# EAGLE library part UCC27425 (library utesla)
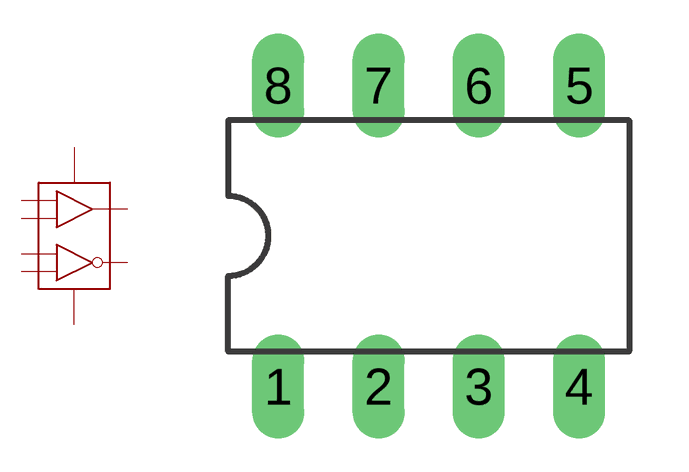
[diagram p1: symbol with the pads of DIL08; footprint DIL08]

Designator prefix -

## UCC27425  [DIL08]
1  ENBA
2  INA
3  GND
4  INB
5  OUTB
6  VCC
7  OUTA
8  ENBB

## Footprint DIL08 (pad centres in mm)
drill 0.813 long: 1 -3.81,-3.81; 2 -1.27,-3.81; 3 1.27,-3.81; 4 3.81,-3.81; 5 3.81,3.81; 6 1.27,3.81; 7 -1.27,3.81; 8 -3.81,3.81